# EAGLE library part TPS546B24A (library ds_ic_vreg)
2.95-V to 18-V, 20-A, Up to 4× Stackable, PMBus® Buck Converter
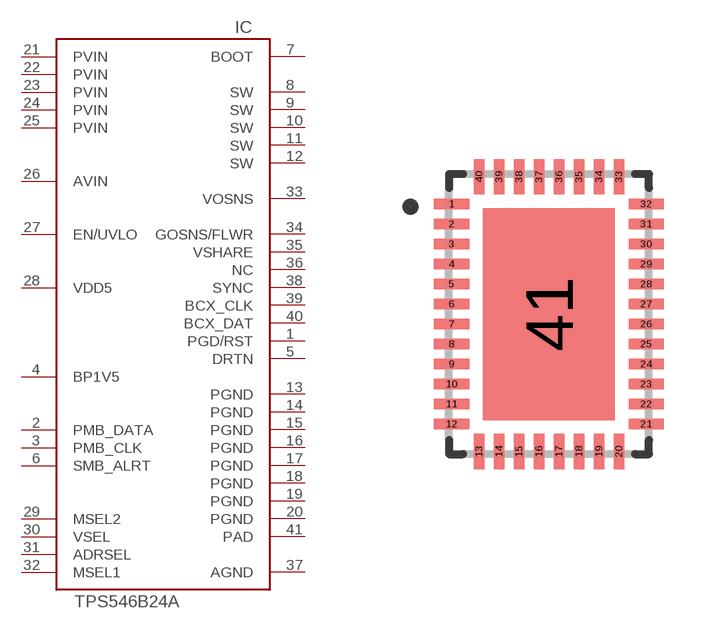
[diagram p27: symbol with the pads of LQFN-CLIP40; footprint LQFN-CLIP40]

Designator prefix IC

## TPS546B24AARVFR (DATASHEET: https://www.ti.com/lit/ds/symlink/tps546b24a.pdf; DESCRIPTION: 2.95-V to 18-V, 20-A, Up to 4× Stackable, PMBus® Buck Converter; LCSC_PART: C22400052; MANUFACTURER: Texas Instruments; MPN: TPS546B24ARVFR; ROHS: YES; VALUE: TPS546B24)  [LQFN-CLIP40]
1  PGD/RST
2  PMB_DATA
3  PMB_CLK
4  BP1V5  pwr
5  DRTN
6  SMB_ALRT
7  BOOT
8  SW  pwr
9  SW  pwr
10  SW  pwr
11  SW  pwr
12  SW  pwr
13  PGND  pwr
14  PGND  pwr
15  PGND  pwr
16  PGND  pwr
17  PGND  pwr
18  PGND  pwr
19  PGND  pwr
20  PGND  pwr
21  PVIN  pwr
22  PVIN  pwr
23  PVIN  pwr
24  PVIN  pwr
25  PVIN  pwr
26  AVIN  pwr
27  EN/UVLO
28  VDD5  pwr
29  MSEL2
30  VSEL
31  ADRSEL
32  MSEL1
33  VOSNS
34  GOSNS/FLWR
35  VSHARE
36  NC
37  AGND  pwr
38  SYNC
39  BCX_CLK
40  BCX_DAT
41  PAD  pwr

## Footprint LQFN-CLIP40 (pad centres in mm)
smd 0.88 x 0.26: 1 -2.435,2.75; 2 -2.435,2.25; 3 -2.435,1.75; 4 -2.435,1.25; 5 -2.435,0.75; 6 -2.435,0.25; 7 -2.435,-0.25; 8 -2.435,-0.75; 9 -2.435,-1.25; 10 -2.435,-1.75; 11 -2.435,-2.25; 12 -2.435,-2.75; 21 2.435,-2.75; 22 2.435,-2.25; 23 2.435,-1.75; 24 2.435,-1.25; 25 2.435,-0.75; 26 2.435,-0.25; 27 2.435,0.25; 28 2.435,0.75; 29 2.435,1.25; 30 2.435,1.75; 31 2.435,2.25; 32 2.435,2.75
smd 0.26 x 0.88: 13 -1.75,-3.435; 14 -1.25,-3.435; 15 -0.75,-3.435; 16 -0.25,-3.435; 17 0.25,-3.435; 18 0.75,-3.435; 19 1.25,-3.435; 20 1.75,-3.435; 33 1.75,3.435; 34 1.25,3.435; 35 0.75,3.435; 36 0.25,3.435; 37 -0.25,3.435; 38 -0.75,3.435; 39 -1.25,3.435; 40 -1.75,3.435
smd 3.3 x 5.3: 41 0,0